# Altium footprint library MOSFET.PcbLib: 13 footprints
Each footprint in its own frame and in the unit in brackets; x right, y up, seen from the top. Pads: shape width x height; smd on the part's side, far side on the other; paste and mask are expansions set on the pad; w line width, h text height; cw(c..) or ccw(c..) is an arc to the next point about the centre after c.
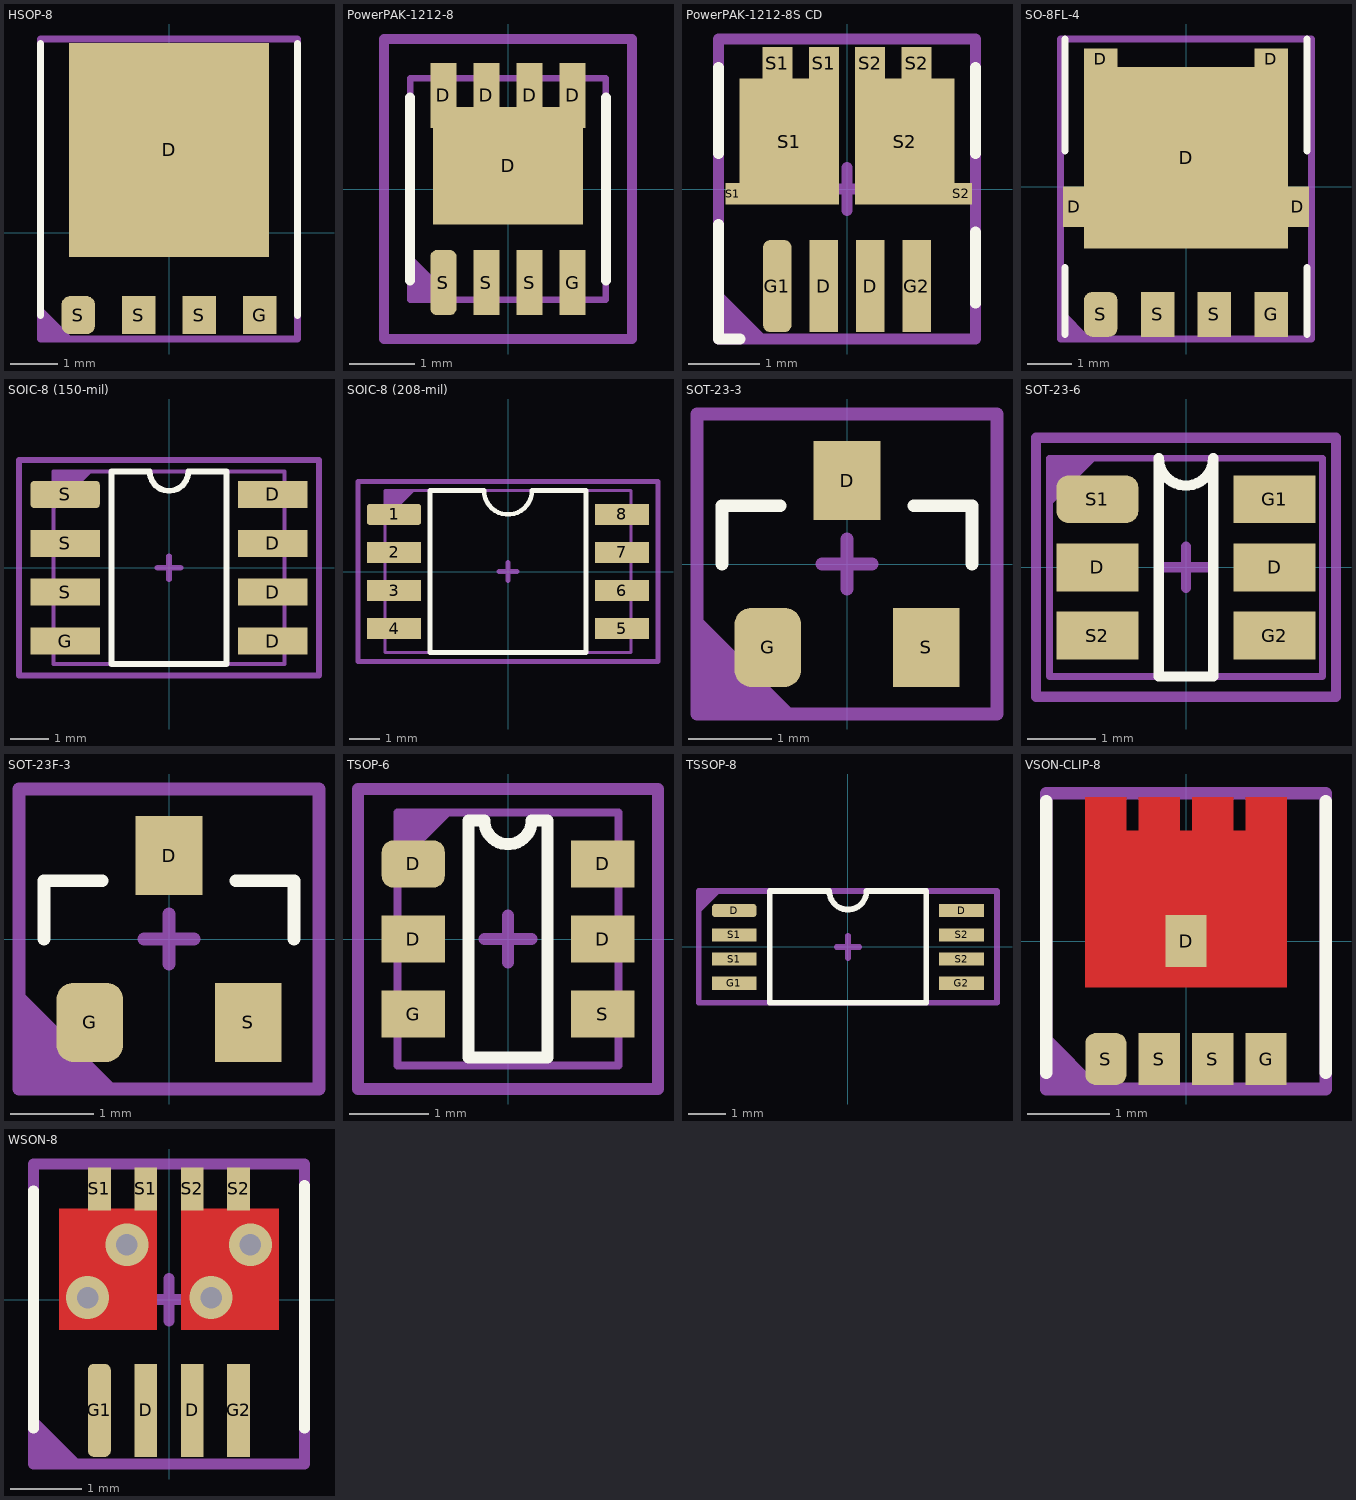
[diagram p0: the footprints below, top view; thin cyan lines are the x and y axes]

## HSOP-8 [mm]
pads (5):
  rect 4.2x4.5 smd: D(0,1.735)
  rect 0.7x0.8 smd: G(1.905,-1.735) S(-0.635,-1.735) S(0.635,-1.735)
  rrect50% 0.7x0.8 smd: S(-1.905,-1.735)
Top Overlay:
  lines w0.153: -2.7,-1.735 -2.7,3.965 ; 2.7,-1.735 2.7,3.965
Top Assembly:
  region: -2.7,-2.235 -2.7,-1.535 -2,-2.235
  lines w0.1: -2.7,-2.235 2.7,-2.235 2.7,4.065 -2.7,4.065 -2.7,-2.235
  text "'.Designator'" at -4.532,-0.333 h0.8
Top Courtyard:
  lines w0.153: -0.3,0 0.3,0 ; 0,-0.3 0,0.3 ; -2.7,-2.235 -2.7,4.065 2.7,4.065 2.7,-2.235 -2.7,-2.235

## PowerPAK-1212-8 [mm]
pads (9):
  rect 0.4x1 smd: D(-0.99,1.435) D(-0.33,1.435) D(0.33,1.435) D(0.99,1.435) G(0.99,-1.435) S(-0.33,-1.435) S(0.33,-1.435)
  rect 2.3x1.8 smd: D(0,0.358)
  rrect50% 0.4x1 smd: S(-0.99,-1.435)
Top Overlay:
  lines w0.153: -1.5,-1.4 -1.5,1.4 ; 1.5,-1.4 1.5,1.4
Top Assembly:
  region: -1.5,-1.7 -1.5,-1 -0.8,-1.7
  lines w0.1: -1.5,-1.7 1.5,-1.7 1.5,1.7 -1.5,1.7 -1.5,-1.7
  text "'.Designator'" at -4.532,-0.333 h0.8
Top Courtyard:
  lines w0.153: -0.3,0 0.3,0 ; 0,-0.3 0,0.3 ; -1.9,-2.3 1.9,-2.3 1.9,2.3 -1.9,2.3 -1.9,-2.3
3D body "POWERPAK 1212-8SWLH.STEP": height 1.04, standoff 0, extent -1.525,-1.65 1.525,1.65

## PowerPAK-1212-8S CD [mm]
pads (12):
  rect 0.4x1.29 smd: D(-0.325,-1.36) D(0.325,-1.36) G2(0.975,-1.36)
  rrect50% 0.4x1.29 smd: G1(-0.975,-1.36)
  rect 0.2x0.3 smd: S1(-1.6,-0.066)
  rect 0.42x0.45 smd: S1(-0.975,1.76) S1(-0.325,1.76) S2(0.325,1.76) S2(0.975,1.76)
  rect 1.39x1.76 smd: S1(-0.81,0.664) S2(0.81,0.664)
  rect 0.3x0.3 smd: S2(1.6,-0.066)
Top Overlay:
  lines w0.153: -1.8,-0.5 -1.8,-2.1 -1.5,-2.1 ; -1.8,0.5 -1.8,1.7 ; 1.8,-1.6 1.8,-0.6 ; 1.8,0.5 1.8,1.7
Top Assembly:
  region: -1.8,-2.1 -1.8,-1.4 -1.1,-2.1
  lines w0.1: -1.8,-2.1 1.8,-2.1 1.8,2.1 -1.8,2.1 -1.8,-2.1
  text "'.Designator'" at -4.532,-0.333 h0.8
Top Courtyard:
  lines w0.153: -0.3,0 0.3,0 ; 0,-0.3 0,0.3 ; -1.8,-2.1 1.8,-2.1 1.8,2.1 -1.8,2.1 -1.8,-2.1
3D body "User Library-PowerPAK 1212-8S.STEP": height 0.8, standoff 0, extent -1.7,-1.7 1.7,1.7

## SO-8FL-4 [mm]
pads (9):
  rect 0.495x0.905 smd: D(-2.5,-0.45) D(2.5,-0.45)
  rect 0.75x0.475 smd: D(-1.905,2.85) D(1.905,2.85)
  rect 4.56x4.055 smd: D(0,0.65)
  rect 0.75x1 smd: G(1.905,-2.85) S(-0.635,-2.85) S(0.635,-2.85)
  rrect50% 0.75x1 smd: S(-1.905,-2.85)
Top Overlay:
  lines w0.153: -2.7,-3.3 -2.7,-1.8 ; -2.7,0.8 -2.7,3.3 ; 2.7,-3.3 2.7,-1.8 ; 2.7,0.8 2.7,3.3
Top Assembly:
  region: -2.8,-3.4 -2.8,-2.7 -2.1,-3.4
  lines w0.1: -2.8,-3.4 -2.8,3.3 2.8,3.3 2.8,-3.4 -2.8,-3.4
  text "'.Designator'" at -4.532,-0.333 h0.8
Top Courtyard:
  lines w0.153: -0.3,0 0.3,0 ; 0,-0.3 0,0.3 ; -2.8,-3.4 -2.8,3.3 2.8,3.3 2.8,-3.4 -2.8,-3.4
3D body "User Library-DFN5x6_SO8FL.STEP": height 1.13, standoff 0, extent -2.575,-3.15 2.575,3

## SOIC-8 (150-mil) [mm]
pads (8):
  rect 1.8x0.7 smd: D(2.7,-1.905) D(2.7,-0.635) D(2.7,0.635) D(2.7,1.905) G(-2.7,-1.905) S(-2.7,-0.635) S(-2.7,0.635)
  rrect25% 1.8x0.7 smd: S(-2.7,1.905)
Top Overlay:
  lines w0.153: -1.5,-2.5 -1.5,2.5 -0.5,2.5 ccw(c0,2.5) 0.5,2.5 1.5,2.5 1.5,-2.5 -1.5,-2.5
Top Assembly:
  region: -3,2.5 -3,1.5 -2,2.5
  lines w0.1: -3,-2.5 3,-2.5 3,2.5 -3,2.5 -3,-2.5
  text "'.Designator'" at -4.532,-0.333 h0.8
Top Courtyard:
  lines w0.153: -0.3,0 0.3,0 ; 0,-0.3 0,0.3 ; -3.9,-2.8 -3.9,2.8 3.9,2.8 3.9,-2.8 -3.9,-2.8
3D body "so8-3.step": height 1.7, standoff 0, extent -3,-2.45 3,2.45

## SOIC-8 (208-mil) [mm]
pads (8):
  rrect25% 1.8x0.7 smd: 1(-3.8,1.905)
  rect 1.8x0.7 smd: 2(-3.8,0.635) 3(-3.8,-0.635) 4(-3.8,-1.905) 5(3.8,-1.905) 6(3.8,-0.635) 7(3.8,0.635) 8(3.8,1.905)
Top Overlay:
  lines w0.153: -2.6,-2.7 -2.6,2.7 -0.8,2.7 ccw(c0,2.7) 0.8,2.7 2.6,2.7 2.6,-2.7 -2.6,-2.7
Top Assembly:
  region: -4.1,2.7 -4.1,1.7 -3.1,2.7
  lines w0.1: -4.1,-2.7 -4.1,2.7 4.1,2.7 4.1,-2.7 -4.1,-2.7
  text "'.Designator'" at -4.532,-0.333 h0.8
Top Courtyard:
  lines w0.153: -0.3,0 0.3,0 ; 0,-0.3 0,0.3 ; -5,-3 5,-3 5,3 -5,3 -5,-3
3D body "User Library-SOIC-8-208.STEP": height 2.15, standoff 0, extent -4.1,-2.7 4.1,2.7

## SOT-23-3 [mm]
pads (3):
  rect 0.8x0.95 smd: D(0,1) S(0.95,-1)
  rrect50% 0.8x0.95 smd: G(-0.95,-1)
Top Overlay:
  lines w0.153: -1.5,0 -1.5,0.7 -0.8,0.7 ; 0.8,0.7 1.5,0.7 1.5,0
Top Assembly:
  region: -1.8,-1.8 -1.8,-0.6 -0.6,-1.8
  lines w0.1: -1.8,-1.8 -1.8,1.8 1.8,1.8 1.8,-1.8 -1.8,-1.8
  text "'.Designator'" at -4.532,-0.333 h0.8
Top Courtyard:
  lines w0.153: -0.3,0 0.3,0 ; 0,-0.3 0,0.3 ; -1.8,-1.8 -1.8,1.8 1.8,1.8 1.8,-1.8 -1.8,-1.8
3D body "CircuitWorks-SOT-23.STEP": height 1.05, standoff -0.05, extent -1.5,-1.25 1.5,1.25

## SOT-23-6 [mm]
pads (6):
  rect 1.2x0.7 smd: D(-1.3,0) D(1.3,0) G1(1.3,1) G2(1.3,-1) S2(-1.3,-1)
  rrect50% 1.2x0.7 smd: S1(-1.3,1)
Top Overlay:
  lines w0.153: -0.4,-1.6 -0.4,1.6 ccw(c0,1.6) 0.4,1.6 0.4,-1.6 -0.4,-1.6
Top Assembly:
  region: -2,1.6 -1.3,1.6 -2,0.9
  lines w0.1: -2,-1.6 2,-1.6 2,1.6 -2,1.6 -2,-1.6
  text "'.Designator'" at -4.532,-0.333 h0.8
Top Courtyard:
  lines w0.153: -0.3,0 0.3,0 ; 0,-0.3 0,0.3 ; -2.2,-1.9 -2.2,1.9 2.2,1.9 2.2,-1.9 -2.2,-1.9
3D body "6-TSOP.step": height 1.11, standoff 0.01, extent -1.412,-1.55 1.412,1.55

## SOT-23F-3 [mm]
pads (3):
  rect 0.8x0.95 smd: D(0,1) S(0.95,-1)
  rrect50% 0.8x0.95 smd: G(-0.95,-1)
Top Overlay:
  lines w0.153: -1.5,0 -1.5,0.7 -0.8,0.7 ; 0.8,0.7 1.5,0.7 1.5,0
Top Assembly:
  region: -1.8,-1.8 -1.8,-0.6 -0.6,-1.8
  lines w0.1: -1.8,-1.8 -1.8,1.8 1.8,1.8 1.8,-1.8 -1.8,-1.8
  text "'.Designator'" at -4.532,-0.333 h0.8
Top Courtyard:
  lines w0.153: -0.3,0 0.3,0 ; 0,-0.3 0,0.3 ; -1.8,-1.8 -1.8,1.8 1.8,1.8 1.8,-1.8 -1.8,-1.8
3D body "User Library-SOT23F-1.STEP": height 0.91, standoff 0, extent -1.45,-1.2 1.45,1.2

## TSOP-6 [mm]
height 1.1
pads (6):
  rect 0.8x0.6 smd: D(-1.2,0) D(1.2,0) D(1.2,0.95) G(-1.2,-0.95) S(1.2,-0.95)
  rrect50% 0.8x0.6 smd: D(-1.2,0.95)
Top Overlay:
  lines w0.153: -0.5,-1.5 0.5,-1.5 0.5,1.5 0.3,1.5 cw(c0,1.5) -0.3,1.5 -0.5,1.5 -0.5,-1.5
Top Assembly:
  region: -1.4,1.6 -0.7,1.6 -1.4,0.9
  lines w0.1: -1.4,-1.6 1.4,-1.6 1.4,1.6 -1.4,1.6 -1.4,-1.6
  text "'.Designator'" at -4.532,-0.333 h0.8
Top Courtyard:
  lines w0.153: -0.3,0 0.3,0 ; 0,-0.3 0,0.3 ; -1.9,-1.9 -1.9,1.9 1.9,1.9 1.9,-1.9 -1.9,-1.9
3D body "6-TSOP.step": height 1.11, standoff 0.01, extent -1.412,-1.55 1.412,1.55

## TSSOP-8 [mm]
height 1.2
pads (8):
  rrect50% 1.2x0.35 smd mask+0.05: D(-3.05,0.975)
  rect 1.2x0.35 smd mask+0.05: D(3.05,0.975) G1(-3.05,-0.975) G2(3.05,-0.975) S1(-3.05,-0.325) S1(-3.05,0.325) S2(3.05,-0.325) S2(3.05,0.325)
Top Overlay:
  lines w0.153: -2.1,-1.5 -2.1,1.5 -0.5,1.5 ccw(c0,1.5) 0.5,1.5 2.1,1.5 2.1,-1.5 -2.1,-1.5
Top Assembly:
  region: -4.05,1.55 -3.35,1.55 -4.05,0.85
  lines w0.1: -4,-1.5 4,-1.5 4,1.5 -4,1.5 -4,-1.5
  text "'.Designator'" at -4.532,-0.333 h0.8
Top Courtyard:
  lines w0.153: -0.3,0 0.3,0 ; 0,-0.3 0,0.3 ; -4,-1.5 -4,1.5 4,1.5 4,-1.5 -4,-1.5
3D body "User Library-TSSOP-8.STEP": height 1.2, standoff 0, extent -3.2,-1.5 3.2,1.5

## VSON-CLIP-8 [mm]
pads (5):
  rect 0.5x0.63 smd paste-1 mask+0: D(0,0)
  rect 0.5x0.63 smd paste-1: G(0.975,-1.435) S(-0.325,-1.435) S(0.325,-1.435)
  rrect50% 0.5x0.63 smd paste-1: S(-0.975,-1.435)
Top Layer:
  region: -0.725,1.75 -0.725,1.34 -0.575,1.34 -0.575,1.75 -0.075,1.75 -0.075,1.34 0.075,1.34 0.075,1.75 0.575,1.75 0.575,1.34 0.725,1.34 0.725,1.75 1.225,1.75 1.225,-0.56 -1.225,-0.56 -1.225,1.75
Top Overlay:
  lines w0.153: -1.7,-1.6 -1.7,1.7 ; 1.7,-1.6 1.7,1.7
Top Paste:
  region: 1.145,0.985 1.145,-0.46 0.125,-0.46 0.125,0.985
  region: -0.805,-1.21 -0.805,-1.66 -1.145,-1.66 -1.145,-1.21
  region: -0.155,-1.21 -0.155,-1.66 -0.495,-1.66 -0.495,-1.21
  region: 1.145,-1.21 1.145,-1.66 0.805,-1.66 0.805,-1.21
  region: 0.495,-1.21 0.495,-1.66 0.155,-1.66 0.155,-1.21
  region: 1.145,1.66 1.145,1.21 0.805,1.21 0.805,1.66
  region: 0.495,1.66 0.495,1.21 0.155,1.21 0.155,1.66
  region: -0.805,1.66 -0.805,1.21 -1.145,1.21 -1.145,1.66
  region: -0.155,1.66 -0.155,1.21 -0.495,1.21 -0.495,1.66
  region: -0.125,0.985 -0.125,-0.46 -1.145,-0.46 -1.145,0.985
Top Solder:
  region: 1.325,1.85 1.325,-0.66 -1.325,-0.66 -1.325,1.85
Top Assembly:
  region: -1.7,-1.8 -1.7,-1.1 -1,-1.8
  lines w0.1: -1.7,-1.8 1.7,-1.8 1.7,1.8 -1.7,1.8 -1.7,-1.8
  text "'.Designator'" at -4.532,-0.333 h0.8
Top Courtyard:
  lines w0.153: -0.3,0 0.3,0 ; 0,-0.3 0,0.3 ; -1.7,-1.8 1.7,-1.8 1.7,1.8 -1.7,1.8 -1.7,-1.8
3D body "User Library-PQFN8.STEP": height 0.77, standoff -0.03, extent -1.65,-1.65 1.65,1.65

## WSON-8 [mm]
pads (8):
  rect 0.32x1.3 smd: D(-0.325,-1.55) D(0.325,-1.55) G2(0.975,-1.55)
  rrect50% 0.32x1.3 smd: G1(-0.975,-1.55)
  rect 0.32x0.6 smd: S1(-0.975,1.55) S1(-0.325,1.55) S2(0.325,1.55) S2(0.975,1.55)
via 0.59,0.03 diameter 0.6 hole 0.3
via -1.14,0.03 diameter 0.6 hole 0.3
via -0.59,0.77 diameter 0.6 hole 0.3
via 1.14,0.77 diameter 0.6 hole 0.3
Top Layer:
  region: -0.165,-0.425 -0.165,1.275 -1.54,1.275 -1.54,-0.425
  region: 0.165,1.275 0.165,-0.425 1.54,-0.425 1.54,1.275
Top Overlay:
  lines w0.153: -1.9,-1.8 -1.9,1.525 ; 1.9,-1.8 1.9,1.6
Top Solder:
  region: 0.165,1.275 0.165,-0.425 1.54,-0.425 1.54,1.275
  region: -0.165,-0.425 -0.165,1.275 -1.54,1.275 -1.54,-0.425
Top Assembly:
  region: -1.9,-2.3 -1.9,-1.6 -1.2,-2.3
  lines w0.1: -1.9,-2.3 1.9,-2.3 1.9,1.9 -1.9,1.9 -1.9,-2.3
  text "'.Designator'" at -4.532,-0.333 h0.8
Top Courtyard:
  lines w0.153: -0.3,0 0.3,0 ; 0,-0.3 0,0.3 ; -1.9,-2.3 1.9,-2.3 1.9,1.9 -1.9,1.9 -1.9,-2.3
3D body "User Library-PQFN8.STEP": height 0.78, standoff -0.02, extent -1.65,-1.8 1.65,1.5